# EAGLE library part 750314225 (library WE-IBTI)
WE-IBTI Isolated Buck Transformers Characteristics Flybuck™ topology Operating Temp: -40°C to +125°C Excellent leakage inductance and interwinding capacitance performance Applications Industrial Programmable Logic Controllers (PLCs) Building automation and process control Isolated interface power: RS-422, RS-485, CAN, I2C, LAN Motor drive control, inverters and industrial automation Isolated low power drivers & regulators, smart e-meters Bias power supplies for gate drives and op-amps <https://www.we-online.com/components/media/o790826v209%20family-MID-IBTI.1673.jpg> Details see: www.we-online.com/en/components/products/WE-IBTI <www.we-online.com/catalog/WE-IBTI/?utm_source=eagle_model&utm_medium=description_link&utm_campaign=eisos_eagle> Created by Ella Wu 2024-06-07 2024 (C) Wurth Elektronik
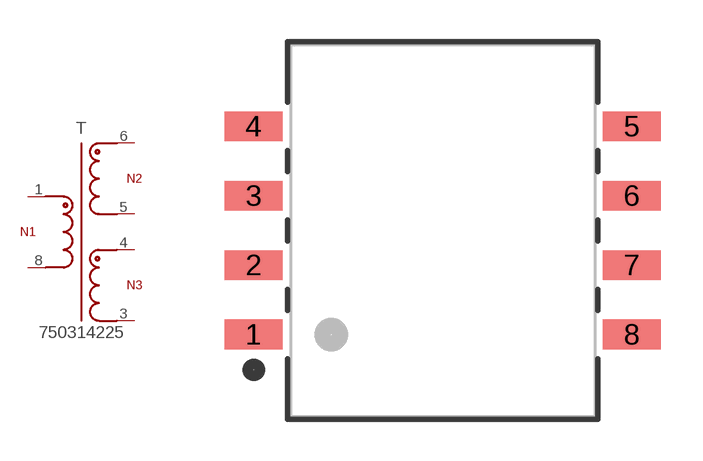
[diagram p17: symbol with the pads of WE-IBTI_EP10_L13.34W15.2411.43; footprint WE-IBTI_EP10_L13.34W15.2411.43]

Designator prefix T

## 750314225 (DATASHEET-URL: https://www.we-online.com/redexpert/spec/750314225?ae; FSWITCH: 250 - 600kHz; HEIGHT: 11.43mm; IOUT1: 250mA; IOUT2: 250mA; ISAT: 1.3A; L: 50uH; LENGTH: 13.34mm; LS: 800nH; MOUNT: SMT; N: 1.5:1; PART-NUMBER: 750314225; SIZE: EP10; VALUE: 750314225; VBUCK: 7.8V; VIN: 15 - 40 V (DC); VOUT1: 5V; VOUT2: 5V; VT: 1500V(AC); WIDTH: 15.24mm)  [WE-IBTI_EP10_L13.34W15.2411.43]
1  1  pas
3  3  pas
4  4  pas
5  5  pas
6  6  pas
8  8  pas

## Footprint WE-IBTI_EP10_L13.34W15.2411.43 (pad centres in mm)
WE-IBTI Isolated Buck Transformers Size: EP10,SMT,8pins LXWXH=13.34X15.24X11.43mm
smd 2.08 x 1.07: 1 -6.78,-3.735; 2 -6.78,-1.245; 3 -6.78,1.245; 4 -6.78,3.735; 5 6.78,3.735; 6 6.78,1.245; 7 6.78,-1.245; 8 6.78,-3.735